# EAGLE library part ADUM2401 (library 50w-modular-psu)
Quad-Channel Digital Isolators The ADuM240x1 are 4-channel digital isolators based on Analog Devices, Inc., iCoupler® technology. Combining high speed CMOS and monolithic air core transformer technology, these isolation components provide outstanding performance characteristics that are superior to alternatives, such as optocoupler devices.
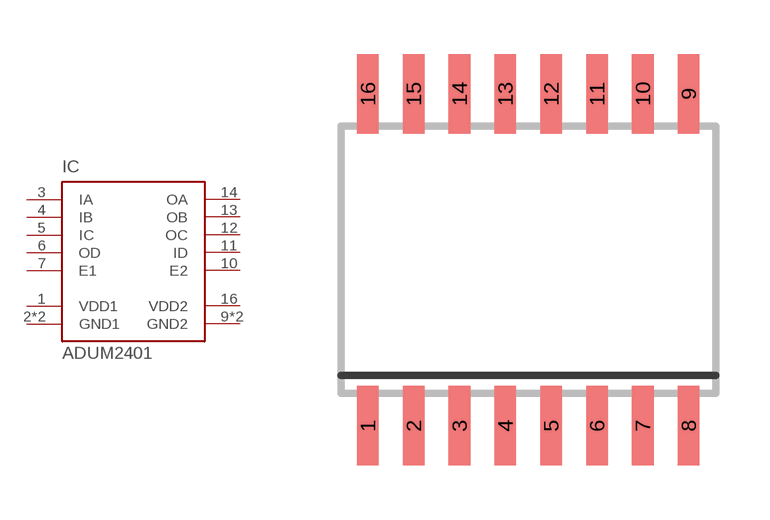
[diagram p4: symbol with the pads of SO-16W; footprint SO-16W]

Designator prefix IC

## ADUM2401ARWZ, ADUM2401BRWZ, ADUM2401CRWZ  [SO-16W]
1  VDD1  pwr
2  GND1  pwr
3  IA  in
4  IB  in
5  IC  in
6  OD  out
7  E1  in
8  GND1  pwr
9  GND2  pwr
10  E2  in
11  ID  in
12  OC  out
13  OB  out
14  OA  out
15  GND2  pwr
16  VDD2  pwr

## Footprint SO-16W (pad centres in mm)
16-Lead (Wide Body) Small Outline Package (R-16) Source: http://www.analog.com/UploadedFiles/Data_Sheets/409317160AD421_c.pdf
smd 0.6 x 2.2: 1 -4.445,-4.6; 2 -3.175,-4.6; 3 -1.905,-4.6; 4 -0.635,-4.6; 5 0.635,-4.6; 6 1.905,-4.6; 7 3.175,-4.6; 8 4.445,-4.6; 9 4.445,4.6; 10 3.175,4.6; 11 1.905,4.6; 12 0.635,4.6; 13 -0.635,4.6; 14 -1.905,4.6; 15 -3.175,4.6; 16 -4.445,4.6